# Altium integrated library TI Data Converters Analog to Digital Converter.IntLib: 2198 symbols (part 127 of 164)
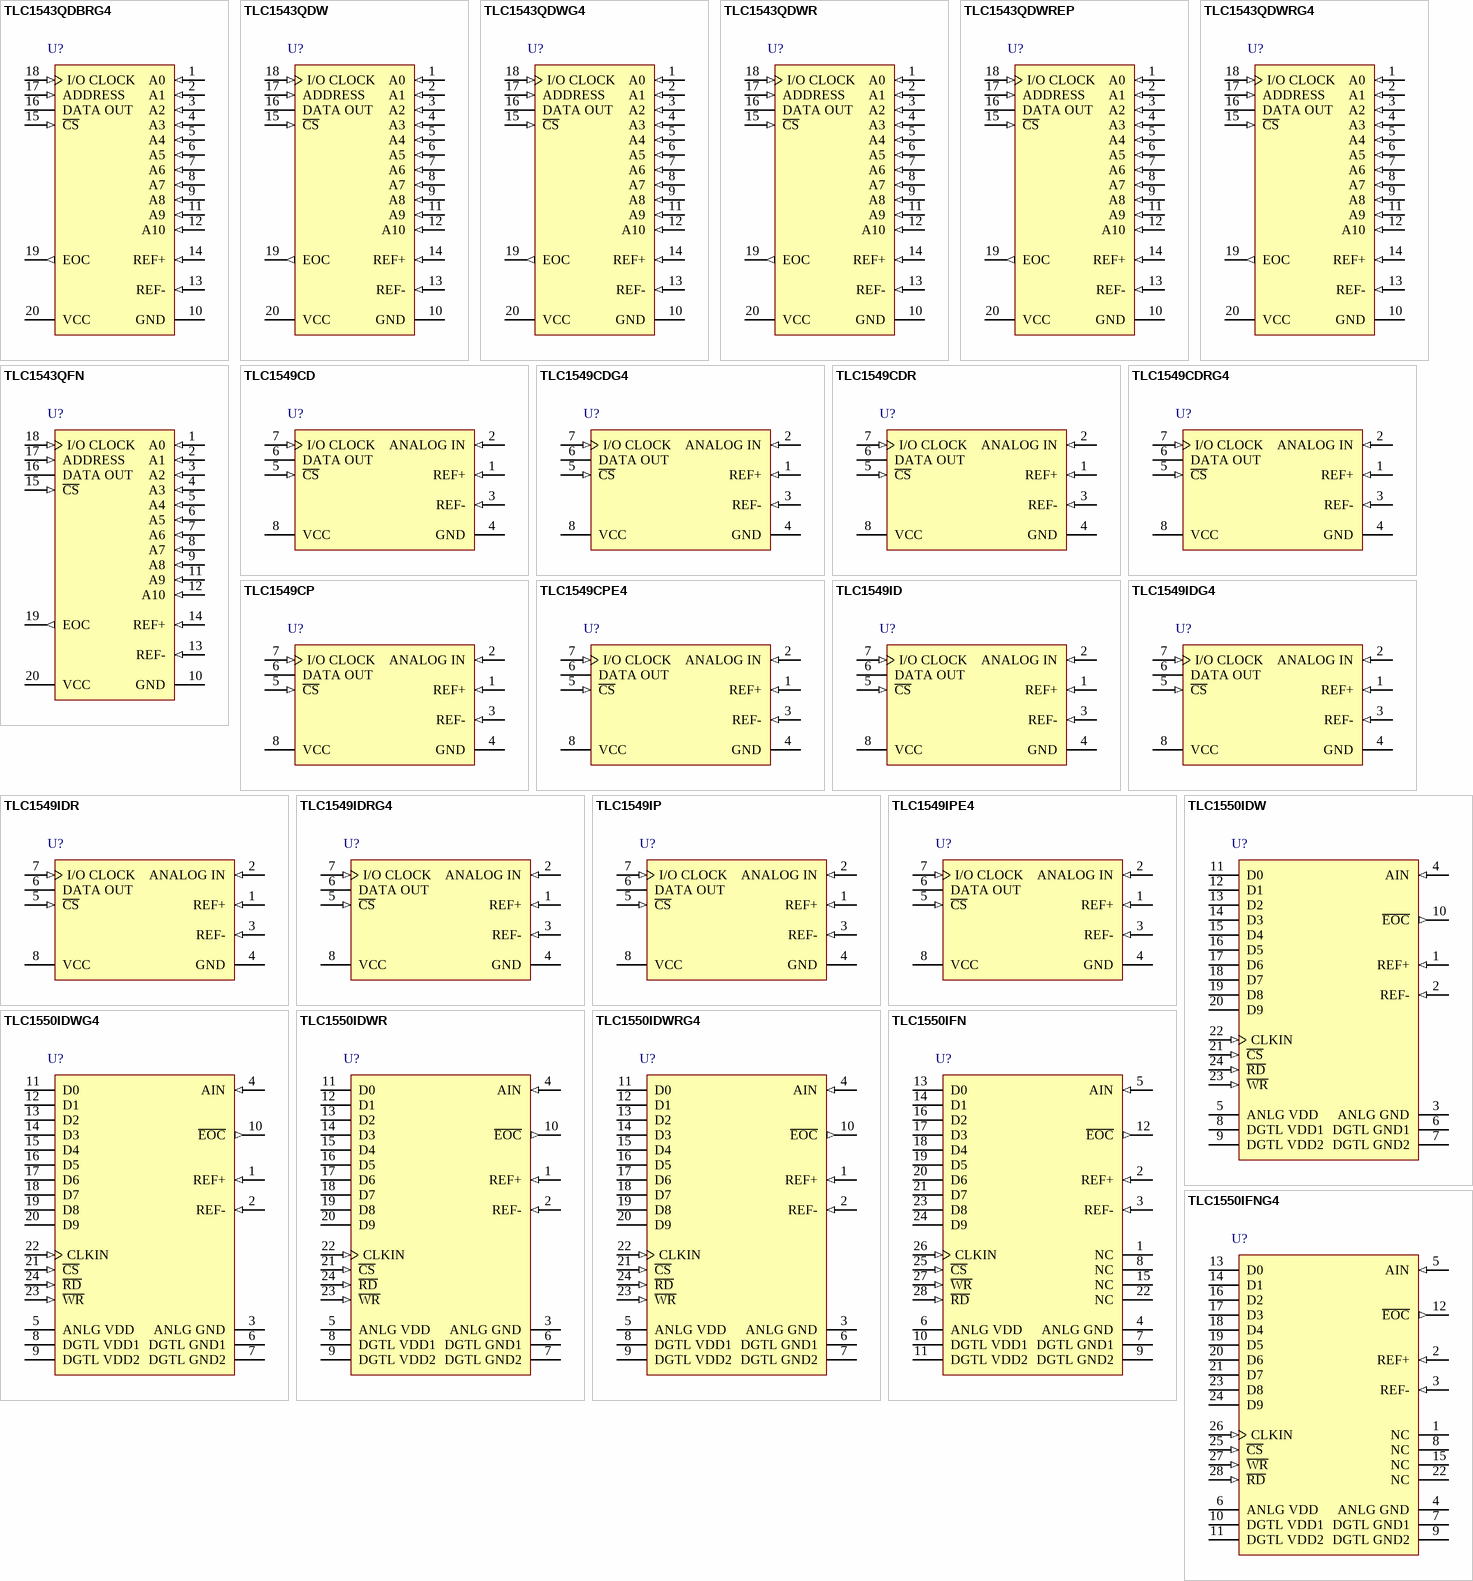
[diagram p252: symbols TLC1543QDBRG4 to TLC1550IFNG4]

## TLC1549IDR
designator U?
10-Bit, 38 kSPS ADC Serial Out, On-Chip System Clock, Single Channel, -40 to 85 degC, 8-pin SOIC (D8), Green (RoHS & no Sb/Br); Manufacturer: Texas Instruments; PartNumber: TLC1549IDR; # Input Channels: 1; Analog Voltage AV/DD(Max)(V): 5.5; Analog Voltage AV/DD(Min)(V): 4.5; Architecture: SAR; Interface: Serial SPI; Resolution(Bits): 10; Sample Rate (max)(SPS): 38k; SubFamily: Low Power, 8-Bit, Dual 1.5 GSPS or Single 3.0 GSPS A/D Converter; DatasheetVersion: SLAS059C; PackageVersion: 4040047-3/M, 06/2011; PackageReference: D8; PackageDescription: 8-Pin Plastic Small Outline, Body 4.9 x 3.9 mm, Pitch 1.27 mm; Supplier 1: Digi-Key; Supplier Part Number 1: TLC1543CNE4-ND; Digital Supply(Max)(V): 5.5; Digital Supply(Min)(V): 4.5; Eco-Plan: Green (RoHS & no Sb/Br); INL(Max)(+/-LSB): 1; Mounting Technology: Surface Mount; Code_JEDEC: MS-012; ComponentLink1Description: Manufacturer URL; ComponentLink1URL: http://www.ti.com/; ComponentLink2Description: Datasheet; ComponentLink2URL: http://www.ti.com/general/docs/lit/getliterature.tsp?genericPartNumber=TLC1549&fileType=pdf; ComponentLink3Description: Package Specification; ComponentLink3URL: http://www.ti.com/litv/pdf/msoi002j
footprint TI-D8_N (SOIC, 8-Leads, Body 4.9x3.9mm, Pitch 1.27mm, IPC Medium Density)
footprint TI-D8_L (SOIC, 8-Leads, Body 4.9x3.9mm, Pitch 1.27mm, IPC High Density)
footprint TI-D8_M (SOIC, 8-Leads, Body 4.9x3.9mm, Pitch 1.27mm, IPC Low Density)
pins: 1 REF+ (in), 2 ANALOG IN (in), 3 REF- (in), 4 GND (power), 5 ~{CS} (in), 6 DATA OUT (hiz), 7 I/O CLOCK (in), 8 VCC (power)

## TLC1549IDRG4
designator U?
10-Bit, 38 kSPS ADC Serial Out, On-Chip System Clock, Single Channel, -40 to 85 degC, 8-pin SOIC (D8), Green (RoHS & no Sb/Br); Manufacturer: Texas Instruments; PartNumber: TLC1549IDRG4; # Input Channels: 1; Analog Voltage AV/DD(Max)(V): 5.5; Analog Voltage AV/DD(Min)(V): 4.5; Architecture: SAR; Interface: Serial SPI; Resolution(Bits): 10; Sample Rate (max)(SPS): 38k; SubFamily: Low Power, 8-Bit, Dual 1.5 GSPS or Single 3.0 GSPS A/D Converter; DatasheetVersion: SLAS059C; PackageVersion: 4040047-3/M, 06/2011; PackageReference: D8; PackageDescription: 8-Pin Plastic Small Outline, Body 4.9 x 3.9 mm, Pitch 1.27 mm; Supplier 1: Digi-Key; Supplier Part Number 1: 296-34332-5-ND; Digital Supply(Max)(V): 5.5; Digital Supply(Min)(V): 4.5; Eco-Plan: Green (RoHS & no Sb/Br); INL(Max)(+/-LSB): 1; Mounting Technology: Surface Mount; Code_JEDEC: MS-012; ComponentLink1Description: Manufacturer URL; ComponentLink1URL: http://www.ti.com/; ComponentLink2Description: Datasheet; ComponentLink2URL: http://www.ti.com/general/docs/lit/getliterature.tsp?genericPartNumber=TLC1549&fileType=pdf; ComponentLink3Description: Package Specification; ComponentLink3URL: http://www.ti.com/litv/pdf/msoi002j
footprint TI-D8_N (SOIC, 8-Leads, Body 4.9x3.9mm, Pitch 1.27mm, IPC Medium Density)
footprint TI-D8_L (SOIC, 8-Leads, Body 4.9x3.9mm, Pitch 1.27mm, IPC High Density)
footprint TI-D8_M (SOIC, 8-Leads, Body 4.9x3.9mm, Pitch 1.27mm, IPC Low Density)
pins: 1 REF+ (in), 2 ANALOG IN (in), 3 REF- (in), 4 GND (power), 5 ~{CS} (in), 6 DATA OUT (hiz), 7 I/O CLOCK (in), 8 VCC (power)

## TLC1549IP
designator U?
10-Bit, 38 kSPS ADC Serial Out, On-Chip System Clock, Single Channel, -40 to 85 degC, 8-pin DIP (P8), Green (RoHS & no Sb/Br); Manufacturer: Texas Instruments; PartNumber: TLC1549IP; # Input Channels: 1; Analog Voltage AV/DD(Max)(V): 5.5; Analog Voltage AV/DD(Min)(V): 4.5; Architecture: SAR; Interface: Serial SPI; Resolution(Bits): 10; Sample Rate (max)(SPS): 38k; SubFamily: Low Power, 8-Bit, Dual 1.5 GSPS or Single 3.0 GSPS A/D Converter; DatasheetVersion: SLAS059C; PackageVersion: 4040082/E, 04/2010; PackageReference: P8; PackageDescription: 8-Pin Plastic In-Line, Body 9.59 x 6.35 mm, Pitch 2.54 mm; Supplier 1: Digi-Key; Supplier Part Number 1: TLC1543IDBG4-ND; Digital Supply(Max)(V): 5.5; Digital Supply(Min)(V): 4.5; Eco-Plan: Green (RoHS & no Sb/Br); INL(Max)(+/-LSB): 1; Mounting Technology: Through Hole; Code_JEDEC: MS-001; ComponentLink1Description: Manufacturer URL; ComponentLink1URL: http://www.ti.com/; ComponentLink2Description: Datasheet; ComponentLink2URL: http://www.ti.com/general/docs/lit/getliterature.tsp?genericPartNumber=TLC1549&fileType=pdf; ComponentLink3Description: Package Specification; ComponentLink3URL: http://www.ti.com/litv/pdf/mpdi001b
footprint TI-P8 (DIP, 8-Leads, Body 9.59x6.35mm, Pitch 2.54mm)
pins: 1 REF+ (in), 2 ANALOG IN (in), 3 REF- (in), 4 GND (power), 5 ~{CS} (in), 6 DATA OUT (hiz), 7 I/O CLOCK (in), 8 VCC (power)

## TLC1549IPE4
designator U?
10-Bit, 38 kSPS ADC Serial Out, On-Chip System Clock, Single Channel, -40 to 85 degC, 8-pin DIP (P8), Green (RoHS & no Sb/Br); Manufacturer: Texas Instruments; PartNumber: TLC1549IPE4; # Input Channels: 1; Analog Voltage AV/DD(Max)(V): 5.5; Analog Voltage AV/DD(Min)(V): 4.5; Architecture: SAR; Interface: Serial SPI; Resolution(Bits): 10; Sample Rate (max)(SPS): 38k; SubFamily: Low Power, 8-Bit, Dual 1.5 GSPS or Single 3.0 GSPS A/D Converter; DatasheetVersion: SLAS059C; PackageVersion: 4040082/E, 04/2010; PackageReference: P8; PackageDescription: 8-Pin Plastic In-Line, Body 9.59 x 6.35 mm, Pitch 2.54 mm; Supplier 1: Digi-Key; Supplier Part Number 1: TLC1543IDBR-ND; Digital Supply(Max)(V): 5.5; Digital Supply(Min)(V): 4.5; Eco-Plan: Green (RoHS & no Sb/Br); INL(Max)(+/-LSB): 1; Mounting Technology: Through Hole; Code_JEDEC: MS-001; ComponentLink1Description: Manufacturer URL; ComponentLink1URL: http://www.ti.com/; ComponentLink2Description: Datasheet; ComponentLink2URL: http://www.ti.com/general/docs/lit/getliterature.tsp?genericPartNumber=TLC1549&fileType=pdf; ComponentLink3Description: Package Specification; ComponentLink3URL: http://www.ti.com/litv/pdf/mpdi001b
footprint TI-P8 (DIP, 8-Leads, Body 9.59x6.35mm, Pitch 2.54mm)
pins: 1 REF+ (in), 2 ANALOG IN (in), 3 REF- (in), 4 GND (power), 5 ~{CS} (in), 6 DATA OUT (hiz), 7 I/O CLOCK (in), 8 VCC (power)

## TLC1550IDW
designator U?
10-Bit, 164 kSPS ADC Parallel Out, Direct I/F to DSP / uProcessor, 10 Channel, -40 to 85 degC, 24-pin SOIC (DW24), Green (RoHS & no Sb/Br); Manufacturer: Texas Instruments; PartNumber: TLC1550IDW; # Input Channels: 1; Analog Voltage AV/DD(Max)(V): 5.5; Analog Voltage AV/DD(Min)(V): 4.75; Architecture: SAR; INL(Max)(+/-LSB): 0.5; Interface: Parallel CMOS; Resolution(Bits): 10; Sample Rate (max)(SPS): 164k; SubFamily: Precision ADC (<=10MSPS); DatasheetVersion: SLAS043G; PackageVersion: 4040000-5/G, 01/2011; PackageReference: DW24; PackageDescription: 24-Pin Plastic Small Outline, Body 15.4 x 7.5 mm, Pitch 1.27 mm; Supplier 1: Digi-Key; Supplier Part Number 1: TLC1543IDBRG4-ND; Digital Supply(Max)(V): 5.5; Digital Supply(Min)(V): 4.75; Eco-Plan: Green (RoHS & no Sb/Br); Mounting Technology: Surface Mount; Code_JEDEC: MS-013; ComponentLink1Description: Manufacturer URL; ComponentLink1URL: http://www.ti.com/; ComponentLink2Description: Datasheet; ComponentLink2URL: http://www.ti.com/general/docs/lit/getliterature.tsp?genericPartNumber=TLC1550&fileType=pdf; ComponentLink3Description: Package Specification; ComponentLink3URL: http://www.ti.com/litv/pdf/mpds174a
footprint TI-DW24_N (SOIC, 24-Leads, Body 15.4x7.5mm, Pitch 1.27mm, IPC Medium Density)
footprint TI-DW24_L (SOIC, 24-Leads, Body 15.4x7.5mm, Pitch 1.27mm, IPC High Density)
footprint TI-DW24_M (SOIC, 24-Leads, Body 15.4x7.5mm, Pitch 1.27mm, IPC Low Density)
pins: 1 REF+ (in) "Positive voltage-reference input. Any analog input that is greater than or equal to the voltage on REF+ converts to 1111111111. Analog input voltages between REF+ and REF- convert to the appropriate result in a ratiometric (See Datasheet)", 2 REF- (in) "Negative voltage reference input. Any analog input that is less than or equal to the voltage on REF- converts to 0000000000.", 3 ANLG GND (power) "Analog ground. The reference point for the voltage applied on terminals ANLG VDD, AIN, REF+, and REF-.", 4 AIN (in) "Analog voltage input. The voltage applied to AIN is converted to the equivalent digital output.", 5 ANLG VDD (power) "Analog positive power supply voltage. The voltage applied to this terminal is designated VDD3.", 6 DGTL GND1 (power) "Digital ground 1. The ground for power supply DGTL VDD1 and is the substrate connection", 7 DGTL GND2 (power) "Digital ground 2. The ground for power supply DGTL VDD2", 8 DGTL VDD1 (power) "Digital positive power-supply voltage 1. DGTL VDD1 supplies the logic. The voltage applied to DGTL VDD1 is designated VDD1.", 9 DGTL VDD2 (power) "Digital positive power-supply voltage 2. DGTL VDD2 supplies only the higher-current output buffers. The voltage applied to DGTL VDD2 is designated VDD2.", 10 ~{EOC} (out) "End-of-conversion. E\O\C\ goes low indicating that conversion is complete and the results have been transferred to the output latch. E\O\C\ can be connected to the uP- or DSP-interrupt terminal or can be continuously polled", 11 D0 (hiz) "Data bus output. D0 is bit 1 (LSB).", 12 D1 (hiz) "Data bus output. D1 is bit 2.", 13 D2 (hiz) "Data bus output. D2 is bit 3.", 14 D3 (hiz) "Data bus output. D3 is bit 4.", 15 D4 (hiz) "Data bus output. D4 is bit 5.", 16 D5 (hiz) "Data bus output. D5 is bit 6.", 17 D6 (hiz) "Data bus output. D6 is bit 7.", 18 D7 (hiz) "Data bus output. D7 is bit 8.", 19 D8 (hiz) "Data bus output. D8 is bit 9.", 20 D9 (hiz) "Data bus output. D9 is bit 10 (MSB).", 21 ~{CS} (in) "Chip-select. C\S\ must be low for R\D\ or W\R\ to be recognized by the A/D converter.", 22 CLKIN (in) "Clock input. CLKIN is used for external clocking instead of using the internal system clock. It usually takes a few microseconds before the internal clock is disabled. To use the internal clock, CLKIN should be tied high or (See Datasheet)", 23 ~{WR} (in) "Write input. When C\S\ is low, conversion is started on the rising edge of W\R\. On this rising edge, the ADC holds the analog input until conversion is completed. Before and after the conversion period, which is given by (See Datasheet)", 24 ~{RD} (in) "Read input. When C\S\ is low and R\D\ is taken low, the data is placed on the data bus from the output latch. The output latch stores the conversion results at the most recent negative edge of E\O\C\. The falling edge of (See Datasheet)"

## TLC1550IDWG4
designator U?
10-Bit, 164 kSPS ADC Parallel Out, Direct I/F to DSP / uProcessor, 10 Channel, -40 to 85 degC, 24-pin SOIC (DW24), Green (RoHS & no Sb/Br); Manufacturer: Texas Instruments; PartNumber: TLC1550IDWG4; # Input Channels: 1; Analog Voltage AV/DD(Max)(V): 5.5; Analog Voltage AV/DD(Min)(V): 4.75; Architecture: SAR; INL(Max)(+/-LSB): 0.5; Interface: Parallel CMOS; Resolution(Bits): 10; Sample Rate (max)(SPS): 164k; SubFamily: Precision ADC (<=10MSPS); DatasheetVersion: SLAS043G; PackageVersion: 4040000-5/G, 01/2011; PackageReference: DW24; PackageDescription: 24-Pin Plastic Small Outline, Body 15.4 x 7.5 mm, Pitch 1.27 mm; Supplier 1: Digi-Key; Supplier Part Number 1: 296-2886-5-ND; Digital Supply(Max)(V): 5.5; Digital Supply(Min)(V): 4.75; Eco-Plan: Green (RoHS & no Sb/Br); Mounting Technology: Surface Mount; Code_JEDEC: MS-013; ComponentLink1Description: Manufacturer URL; ComponentLink1URL: http://www.ti.com/; ComponentLink2Description: Datasheet; ComponentLink2URL: http://www.ti.com/general/docs/lit/getliterature.tsp?genericPartNumber=TLC1550&fileType=pdf; ComponentLink3Description: Package Specification; ComponentLink3URL: http://www.ti.com/litv/pdf/mpds174a
footprint TI-DW24_N (SOIC, 24-Leads, Body 15.4x7.5mm, Pitch 1.27mm, IPC Medium Density)
footprint TI-DW24_L (SOIC, 24-Leads, Body 15.4x7.5mm, Pitch 1.27mm, IPC High Density)
footprint TI-DW24_M (SOIC, 24-Leads, Body 15.4x7.5mm, Pitch 1.27mm, IPC Low Density)
pins: 1 REF+ (in) "Positive voltage-reference input. Any analog input that is greater than or equal to the voltage on REF+ converts to 1111111111. Analog input voltages between REF+ and REF- convert to the appropriate result in a ratiometric (See Datasheet)", 2 REF- (in) "Negative voltage reference input. Any analog input that is less than or equal to the voltage on REF- converts to 0000000000.", 3 ANLG GND (power) "Analog ground. The reference point for the voltage applied on terminals ANLG VDD, AIN, REF+, and REF-.", 4 AIN (in) "Analog voltage input. The voltage applied to AIN is converted to the equivalent digital output.", 5 ANLG VDD (power) "Analog positive power supply voltage. The voltage applied to this terminal is designated VDD3.", 6 DGTL GND1 (power) "Digital ground 1. The ground for power supply DGTL VDD1 and is the substrate connection", 7 DGTL GND2 (power) "Digital ground 2. The ground for power supply DGTL VDD2", 8 DGTL VDD1 (power) "Digital positive power-supply voltage 1. DGTL VDD1 supplies the logic. The voltage applied to DGTL VDD1 is designated VDD1.", 9 DGTL VDD2 (power) "Digital positive power-supply voltage 2. DGTL VDD2 supplies only the higher-current output buffers. The voltage applied to DGTL VDD2 is designated VDD2.", 10 ~{EOC} (out) "End-of-conversion. E\O\C\ goes low indicating that conversion is complete and the results have been transferred to the output latch. E\O\C\ can be connected to the uP- or DSP-interrupt terminal or can be continuously polled", 11 D0 (hiz) "Data bus output. D0 is bit 1 (LSB).", 12 D1 (hiz) "Data bus output. D1 is bit 2.", 13 D2 (hiz) "Data bus output. D2 is bit 3.", 14 D3 (hiz) "Data bus output. D3 is bit 4.", 15 D4 (hiz) "Data bus output. D4 is bit 5.", 16 D5 (hiz) "Data bus output. D5 is bit 6.", 17 D6 (hiz) "Data bus output. D6 is bit 7.", 18 D7 (hiz) "Data bus output. D7 is bit 8.", 19 D8 (hiz) "Data bus output. D8 is bit 9.", 20 D9 (hiz) "Data bus output. D9 is bit 10 (MSB).", 21 ~{CS} (in) "Chip-select. C\S\ must be low for R\D\ or W\R\ to be recognized by the A/D converter.", 22 CLKIN (in) "Clock input. CLKIN is used for external clocking instead of using the internal system clock. It usually takes a few microseconds before the internal clock is disabled. To use the internal clock, CLKIN should be tied high or (See Datasheet)", 23 ~{WR} (in) "Write input. When C\S\ is low, conversion is started on the rising edge of W\R\. On this rising edge, the ADC holds the analog input until conversion is completed. Before and after the conversion period, which is given by (See Datasheet)", 24 ~{RD} (in) "Read input. When C\S\ is low and R\D\ is taken low, the data is placed on the data bus from the output latch. The output latch stores the conversion results at the most recent negative edge of E\O\C\. The falling edge of (See Datasheet)"

## TLC1550IDWR
designator U?
10-Bit, 164 kSPS ADC Parallel Out, Direct I/F to DSP / uProcessor, 10 Channel, -40 to 85 degC, 24-pin SOIC (DW24), Green (RoHS & no Sb/Br); Manufacturer: Texas Instruments; PartNumber: TLC1550IDWR; # Input Channels: 1; Analog Voltage AV/DD(Max)(V): 5.5; Analog Voltage AV/DD(Min)(V): 4.75; Architecture: SAR; INL(Max)(+/-LSB): 0.5; Interface: Parallel CMOS; Resolution(Bits): 10; Sample Rate (max)(SPS): 164k; SubFamily: Precision ADC (<=10MSPS); DatasheetVersion: SLAS043G; PackageVersion: 4040000-5/G, 01/2011; PackageReference: DW24; PackageDescription: 24-Pin Plastic Small Outline, Body 15.4 x 7.5 mm, Pitch 1.27 mm; Supplier 1: Digi-Key; Supplier Part Number 1: TLC1543IDWG4-ND; Digital Supply(Max)(V): 5.5; Digital Supply(Min)(V): 4.75; Eco-Plan: Green (RoHS & no Sb/Br); Mounting Technology: Surface Mount; Code_JEDEC: MS-013; ComponentLink1Description: Manufacturer URL; ComponentLink1URL: http://www.ti.com/; ComponentLink2Description: Datasheet; ComponentLink2URL: http://www.ti.com/general/docs/lit/getliterature.tsp?genericPartNumber=TLC1550&fileType=pdf; ComponentLink3Description: Package Specification; ComponentLink3URL: http://www.ti.com/litv/pdf/mpds174a
footprint TI-DW24_N (SOIC, 24-Leads, Body 15.4x7.5mm, Pitch 1.27mm, IPC Medium Density)
footprint TI-DW24_L (SOIC, 24-Leads, Body 15.4x7.5mm, Pitch 1.27mm, IPC High Density)
footprint TI-DW24_M (SOIC, 24-Leads, Body 15.4x7.5mm, Pitch 1.27mm, IPC Low Density)
pins: 1 REF+ (in) "Positive voltage-reference input. Any analog input that is greater than or equal to the voltage on REF+ converts to 1111111111. Analog input voltages between REF+ and REF- convert to the appropriate result in a ratiometric (See Datasheet)", 2 REF- (in) "Negative voltage reference input. Any analog input that is less than or equal to the voltage on REF- converts to 0000000000.", 3 ANLG GND (power) "Analog ground. The reference point for the voltage applied on terminals ANLG VDD, AIN, REF+, and REF-.", 4 AIN (in) "Analog voltage input. The voltage applied to AIN is converted to the equivalent digital output.", 5 ANLG VDD (power) "Analog positive power supply voltage. The voltage applied to this terminal is designated VDD3.", 6 DGTL GND1 (power) "Digital ground 1. The ground for power supply DGTL VDD1 and is the substrate connection", 7 DGTL GND2 (power) "Digital ground 2. The ground for power supply DGTL VDD2", 8 DGTL VDD1 (power) "Digital positive power-supply voltage 1. DGTL VDD1 supplies the logic. The voltage applied to DGTL VDD1 is designated VDD1.", 9 DGTL VDD2 (power) "Digital positive power-supply voltage 2. DGTL VDD2 supplies only the higher-current output buffers. The voltage applied to DGTL VDD2 is designated VDD2.", 10 ~{EOC} (out) "End-of-conversion. E\O\C\ goes low indicating that conversion is complete and the results have been transferred to the output latch. E\O\C\ can be connected to the uP- or DSP-interrupt terminal or can be continuously polled", 11 D0 (hiz) "Data bus output. D0 is bit 1 (LSB).", 12 D1 (hiz) "Data bus output. D1 is bit 2.", 13 D2 (hiz) "Data bus output. D2 is bit 3.", 14 D3 (hiz) "Data bus output. D3 is bit 4.", 15 D4 (hiz) "Data bus output. D4 is bit 5.", 16 D5 (hiz) "Data bus output. D5 is bit 6.", 17 D6 (hiz) "Data bus output. D6 is bit 7.", 18 D7 (hiz) "Data bus output. D7 is bit 8.", 19 D8 (hiz) "Data bus output. D8 is bit 9.", 20 D9 (hiz) "Data bus output. D9 is bit 10 (MSB).", 21 ~{CS} (in) "Chip-select. C\S\ must be low for R\D\ or W\R\ to be recognized by the A/D converter.", 22 CLKIN (in) "Clock input. CLKIN is used for external clocking instead of using the internal system clock. It usually takes a few microseconds before the internal clock is disabled. To use the internal clock, CLKIN should be tied high or (See Datasheet)", 23 ~{WR} (in) "Write input. When C\S\ is low, conversion is started on the rising edge of W\R\. On this rising edge, the ADC holds the analog input until conversion is completed. Before and after the conversion period, which is given by (See Datasheet)", 24 ~{RD} (in) "Read input. When C\S\ is low and R\D\ is taken low, the data is placed on the data bus from the output latch. The output latch stores the conversion results at the most recent negative edge of E\O\C\. The falling edge of (See Datasheet)"

## TLC1550IDWRG4
designator U?
10-Bit, 164 kSPS ADC Parallel Out, Direct I/F to DSP / uProcessor, 10 Channel, -40 to 85 degC, 24-pin SOIC (DW24), Green (RoHS & no Sb/Br); Manufacturer: Texas Instruments; PartNumber: TLC1550IDWRG4; # Input Channels: 1; Analog Voltage AV/DD(Max)(V): 5.5; Analog Voltage AV/DD(Min)(V): 4.75; Architecture: SAR; INL(Max)(+/-LSB): 0.5; Interface: Parallel CMOS; Resolution(Bits): 10; Sample Rate (max)(SPS): 164k; SubFamily: Precision ADC (<=10MSPS); DatasheetVersion: SLAS043G; PackageVersion: 4040000-5/G, 01/2011; PackageReference: DW24; PackageDescription: 24-Pin Plastic Small Outline, Body 15.4 x 7.5 mm, Pitch 1.27 mm; Supplier 1: Digi-Key; Supplier Part Number 1: TLC1543IDWR-ND; Digital Supply(Max)(V): 5.5; Digital Supply(Min)(V): 4.75; Eco-Plan: Green (RoHS & no Sb/Br); Mounting Technology: Surface Mount; Code_JEDEC: MS-013; ComponentLink1Description: Manufacturer URL; ComponentLink1URL: http://www.ti.com/; ComponentLink2Description: Datasheet; ComponentLink2URL: http://www.ti.com/general/docs/lit/getliterature.tsp?genericPartNumber=TLC1550&fileType=pdf; ComponentLink3Description: Package Specification; ComponentLink3URL: http://www.ti.com/litv/pdf/mpds174a
footprint TI-DW24_N (SOIC, 24-Leads, Body 15.4x7.5mm, Pitch 1.27mm, IPC Medium Density)
footprint TI-DW24_L (SOIC, 24-Leads, Body 15.4x7.5mm, Pitch 1.27mm, IPC High Density)
footprint TI-DW24_M (SOIC, 24-Leads, Body 15.4x7.5mm, Pitch 1.27mm, IPC Low Density)
pins: 1 REF+ (in) "Positive voltage-reference input. Any analog input that is greater than or equal to the voltage on REF+ converts to 1111111111. Analog input voltages between REF+ and REF- convert to the appropriate result in a ratiometric (See Datasheet)", 2 REF- (in) "Negative voltage reference input. Any analog input that is less than or equal to the voltage on REF- converts to 0000000000.", 3 ANLG GND (power) "Analog ground. The reference point for the voltage applied on terminals ANLG VDD, AIN, REF+, and REF-.", 4 AIN (in) "Analog voltage input. The voltage applied to AIN is converted to the equivalent digital output.", 5 ANLG VDD (power) "Analog positive power supply voltage. The voltage applied to this terminal is designated VDD3.", 6 DGTL GND1 (power) "Digital ground 1. The ground for power supply DGTL VDD1 and is the substrate connection", 7 DGTL GND2 (power) "Digital ground 2. The ground for power supply DGTL VDD2", 8 DGTL VDD1 (power) "Digital positive power-supply voltage 1. DGTL VDD1 supplies the logic. The voltage applied to DGTL VDD1 is designated VDD1.", 9 DGTL VDD2 (power) "Digital positive power-supply voltage 2. DGTL VDD2 supplies only the higher-current output buffers. The voltage applied to DGTL VDD2 is designated VDD2.", 10 ~{EOC} (out) "End-of-conversion. E\O\C\ goes low indicating that conversion is complete and the results have been transferred to the output latch. E\O\C\ can be connected to the uP- or DSP-interrupt terminal or can be continuously polled", 11 D0 (hiz) "Data bus output. D0 is bit 1 (LSB).", 12 D1 (hiz) "Data bus output. D1 is bit 2.", 13 D2 (hiz) "Data bus output. D2 is bit 3.", 14 D3 (hiz) "Data bus output. D3 is bit 4.", 15 D4 (hiz) "Data bus output. D4 is bit 5.", 16 D5 (hiz) "Data bus output. D5 is bit 6.", 17 D6 (hiz) "Data bus output. D6 is bit 7.", 18 D7 (hiz) "Data bus output. D7 is bit 8.", 19 D8 (hiz) "Data bus output. D8 is bit 9.", 20 D9 (hiz) "Data bus output. D9 is bit 10 (MSB).", 21 ~{CS} (in) "Chip-select. C\S\ must be low for R\D\ or W\R\ to be recognized by the A/D converter.", 22 CLKIN (in) "Clock input. CLKIN is used for external clocking instead of using the internal system clock. It usually takes a few microseconds before the internal clock is disabled. To use the internal clock, CLKIN should be tied high or (See Datasheet)", 23 ~{WR} (in) "Write input. When C\S\ is low, conversion is started on the rising edge of W\R\. On this rising edge, the ADC holds the analog input until conversion is completed. Before and after the conversion period, which is given by (See Datasheet)", 24 ~{RD} (in) "Read input. When C\S\ is low and R\D\ is taken low, the data is placed on the data bus from the output latch. The output latch stores the conversion results at the most recent negative edge of E\O\C\. The falling edge of (See Datasheet)"

## TLC1550IFN
designator U?
10-Bit, 164 kSPS ADC Parallel Out, Direct I/F to DSP / uProcessor, 10 Channel, -40 to 85 degC, 28-pin PLCC (FN), Green (RoHS & no Sb/Br); Manufacturer: Texas Instruments; PartNumber: TLC1550IFN; # Input Channels: 1; Analog Voltage AV/DD(Max)(V): 5.5; Analog Voltage AV/DD(Min)(V): 4.75; Architecture: SAR; INL(Max)(+/-LSB): 0.5; Interface: Parallel CMOS; Resolution(Bits): 10; Sample Rate (max)(SPS): 164k; SubFamily: Precision ADC (<=10MSPS); DatasheetVersion: SLAS043G; PackageReference: FN28; PackageDescription: 28-Pin Plastic Chip Carrier, Body 11.51 x 11.51 mm, Pitch 1.27 mm; Supplier 1: Digi-Key; Supplier Part Number 1: TLC1543IDWRG4-ND; Digital Supply(Max)(V): 5.5; Digital Supply(Min)(V): 4.75; Eco-Plan: Green (RoHS & no Sb/Br); Mounting Technology: Surface Mount; Code_JEDEC: MS-013; ComponentLink1Description: Manufacturer URL; ComponentLink1URL: http://www.ti.com/; ComponentLink2Description: Datasheet; ComponentLink2URL: http://www.ti.com/general/docs/lit/getliterature.tsp?genericPartNumber=TLC1550&fileType=pdf; ComponentLink3Description: Package Specification; ComponentLink3URL: http://www.ti.com/lit/ml/mplc004a/mplc004a.pdf
footprint TI-FN28_N (PLCC, 28-Leads, Body 11.58x11.58mm, Pitch 1.27mm, IPC Medium Density)
footprint TI-FN28_L (PLCC, 28-Leads, Body 11.58x11.58mm, Pitch 1.27mm, IPC High Density)
footprint TI-FN28_M (PLCC, 28-Leads, Body 11.58x11.58mm, Pitch 1.27mm, IPC Low Density)
pins: 1 NC "No internal connection", 2 REF+ (in) "Positive voltage-reference input. Any analog input that is greater than or equal to the voltage on REF+ converts to 1111111111. Analog input voltages between REF+ and REF- convert to the appropriate result in a ratiometric (See Datasheet)", 3 REF- (in) "Negative voltage reference input. Any analog input that is less than or equal to the voltage on REF- converts to 0000000000.", 4 ANLG GND (power) "Analog ground. The reference point for the voltage applied on terminals ANLG VDD, AIN, REF+, and REF-.", 5 AIN (in) "Analog voltage input. The voltage applied to AIN is converted to the equivalent digital output.", 6 ANLG VDD (power) "Analog positive power supply voltage. The voltage applied to this terminal is designated VDD3.", 7 DGTL GND1 (power) "Digital ground 1. The ground for power supply DGTL VDD1 and is the substrate connection", 8 NC "No internal connection", 9 DGTL GND2 (power) "Digital ground 2. The ground for power supply DGTL VDD2", 10 DGTL VDD1 (power) "Digital positive power-supply voltage 1. DGTL VDD1 supplies the logic. The voltage applied to DGTL VDD1 is designated VDD1.", 11 DGTL VDD2 (power) "Digital positive power-supply voltage 2. DGTL VDD2 supplies only the higher-current output buffers. The voltage applied to DGTL VDD2 is designated VDD2.", 12 ~{EOC} (out) "End-of-conversion. E\O\C\ goes low indicating that conversion is complete and the results have been transferred to the output latch. E\O\C\ can be connected to the uP- or DSP-interrupt terminal or can be continuously polled", 13 D0 (hiz) "Data bus output. D0 is bit 1 (LSB).", 14 D1 (hiz) "Data bus output. D1 is bit 2.", 15 NC "No internal connection", 16 D2 (hiz) "Data bus output. D2 is bit 3.", 17 D3 (hiz) "Data bus output. D3 is bit 4.", 18 D4 (hiz) "Data bus output. D4 is bit 5.", 19 D5 (hiz) "Data bus output. D5 is bit 6.", 20 D6 (hiz) "Data bus output. D6 is bit 7.", 21 D7 (hiz) "Data bus output. D7 is bit 8.", 22 NC "No internal connection", 23 D8 (hiz) "Data bus output. D8 is bit 9.", 24 D9 (hiz) "Data bus output. D9 is bit 10 (MSB).", 25 ~{CS} (in) "Chip-select. C\S\ must be low for R\D\ or W\R\ to be recognized by the A/D converter.", 26 CLKIN (in) "Clock input. CLKIN is used for external clocking instead of using the internal system clock. It usually takes a few microseconds before the internal clock is disabled. To use the internal clock, CLKIN should be tied high or (See Datasheet)", 27 ~{WR} (in) "Write input. When C\S\ is low, conversion is started on the rising edge of W\R\. On this rising edge, the ADC holds the analog input until conversion is completed. Before and after the conversion period, which is given by (See Datasheet)", 28 ~{RD} (in) "Read input. When C\S\ is low and R\D\ is taken low, the data is placed on the data bus from the output latch. The output latch stores the conversion results at the most recent negative edge of E\O\C\. The falling edge of (See Datasheet)"

## TLC1550IFNG4
designator U?
10-Bit, 164 kSPS ADC Parallel Out, Direct I/F to DSP / uProcessor, 10 Channel, -40 to 85 degC, 28-pin PLCC (FN), Green (RoHS & no Sb/Br); Manufacturer: Texas Instruments; PartNumber: TLC1550IFNG4; # Input Channels: 1; Analog Voltage AV/DD(Max)(V): 5.5; Analog Voltage AV/DD(Min)(V): 4.75; Architecture: SAR; INL(Max)(+/-LSB): 0.5; Interface: Parallel CMOS; Resolution(Bits): 10; Sample Rate (max)(SPS): 164k; SubFamily: Precision ADC (<=10MSPS); DatasheetVersion: SLAS043G; PackageReference: FN28; PackageDescription: 28-Pin Plastic Chip Carrier, Body 11.51 x 11.51 mm, Pitch 1.27 mm; Supplier 1: Digi-Key; Supplier Part Number 1: 296-2887-5-ND; Digital Supply(Max)(V): 5.5; Digital Supply(Min)(V): 4.75; Eco-Plan: Green (RoHS & no Sb/Br); Mounting Technology: Surface Mount; Code_JEDEC: MS-013; ComponentLink1Description: Manufacturer URL; ComponentLink1URL: http://www.ti.com/; ComponentLink2Description: Datasheet; ComponentLink2URL: http://www.ti.com/general/docs/lit/getliterature.tsp?genericPartNumber=TLC1550&fileType=pdf; ComponentLink3Description: Package Specification; ComponentLink3URL: http://www.ti.com/lit/ml/mplc004a/mplc004a.pdf
footprint TI-FN28_N (PLCC, 28-Leads, Body 11.58x11.58mm, Pitch 1.27mm, IPC Medium Density)
footprint TI-FN28_L (PLCC, 28-Leads, Body 11.58x11.58mm, Pitch 1.27mm, IPC High Density)
footprint TI-FN28_M (PLCC, 28-Leads, Body 11.58x11.58mm, Pitch 1.27mm, IPC Low Density)
pins: 1 NC "No internal connection", 2 REF+ (in) "Positive voltage-reference input. Any analog input that is greater than or equal to the voltage on REF+ converts to 1111111111. Analog input voltages between REF+ and REF- convert to the appropriate result in a ratiometric (See Datasheet)", 3 REF- (in) "Negative voltage reference input. Any analog input that is less than or equal to the voltage on REF- converts to 0000000000.", 4 ANLG GND (power) "Analog ground. The reference point for the voltage applied on terminals ANLG VDD, AIN, REF+, and REF-.", 5 AIN (in) "Analog voltage input. The voltage applied to AIN is converted to the equivalent digital output.", 6 ANLG VDD (power) "Analog positive power supply voltage. The voltage applied to this terminal is designated VDD3.", 7 DGTL GND1 (power) "Digital ground 1. The ground for power supply DGTL VDD1 and is the substrate connection", 8 NC "No internal connection", 9 DGTL GND2 (power) "Digital ground 2. The ground for power supply DGTL VDD2", 10 DGTL VDD1 (power) "Digital positive power-supply voltage 1. DGTL VDD1 supplies the logic. The voltage applied to DGTL VDD1 is designated VDD1.", 11 DGTL VDD2 (power) "Digital positive power-supply voltage 2. DGTL VDD2 supplies only the higher-current output buffers. The voltage applied to DGTL VDD2 is designated VDD2.", 12 ~{EOC} (out) "End-of-conversion. E\O\C\ goes low indicating that conversion is complete and the results have been transferred to the output latch. E\O\C\ can be connected to the uP- or DSP-interrupt terminal or can be continuously polled", 13 D0 (hiz) "Data bus output. D0 is bit 1 (LSB).", 14 D1 (hiz) "Data bus output. D1 is bit 2.", 15 NC "No internal connection", 16 D2 (hiz) "Data bus output. D2 is bit 3.", 17 D3 (hiz) "Data bus output. D3 is bit 4.", 18 D4 (hiz) "Data bus output. D4 is bit 5.", 19 D5 (hiz) "Data bus output. D5 is bit 6.", 20 D6 (hiz) "Data bus output. D6 is bit 7.", 21 D7 (hiz) "Data bus output. D7 is bit 8.", 22 NC "No internal connection", 23 D8 (hiz) "Data bus output. D8 is bit 9.", 24 D9 (hiz) "Data bus output. D9 is bit 10 (MSB).", 25 ~{CS} (in) "Chip-select. C\S\ must be low for R\D\ or W\R\ to be recognized by the A/D converter.", 26 CLKIN (in) "Clock input. CLKIN is used for external clocking instead of using the internal system clock. It usually takes a few microseconds before the internal clock is disabled. To use the internal clock, CLKIN should be tied high or (See Datasheet)", 27 ~{WR} (in) "Write input. When C\S\ is low, conversion is started on the rising edge of W\R\. On this rising edge, the ADC holds the analog input until conversion is completed. Before and after the conversion period, which is given by (See Datasheet)", 28 ~{RD} (in) "Read input. When C\S\ is low and R\D\ is taken low, the data is placed on the data bus from the output latch. The output latch stores the conversion results at the most recent negative edge of E\O\C\. The falling edge of (See Datasheet)"

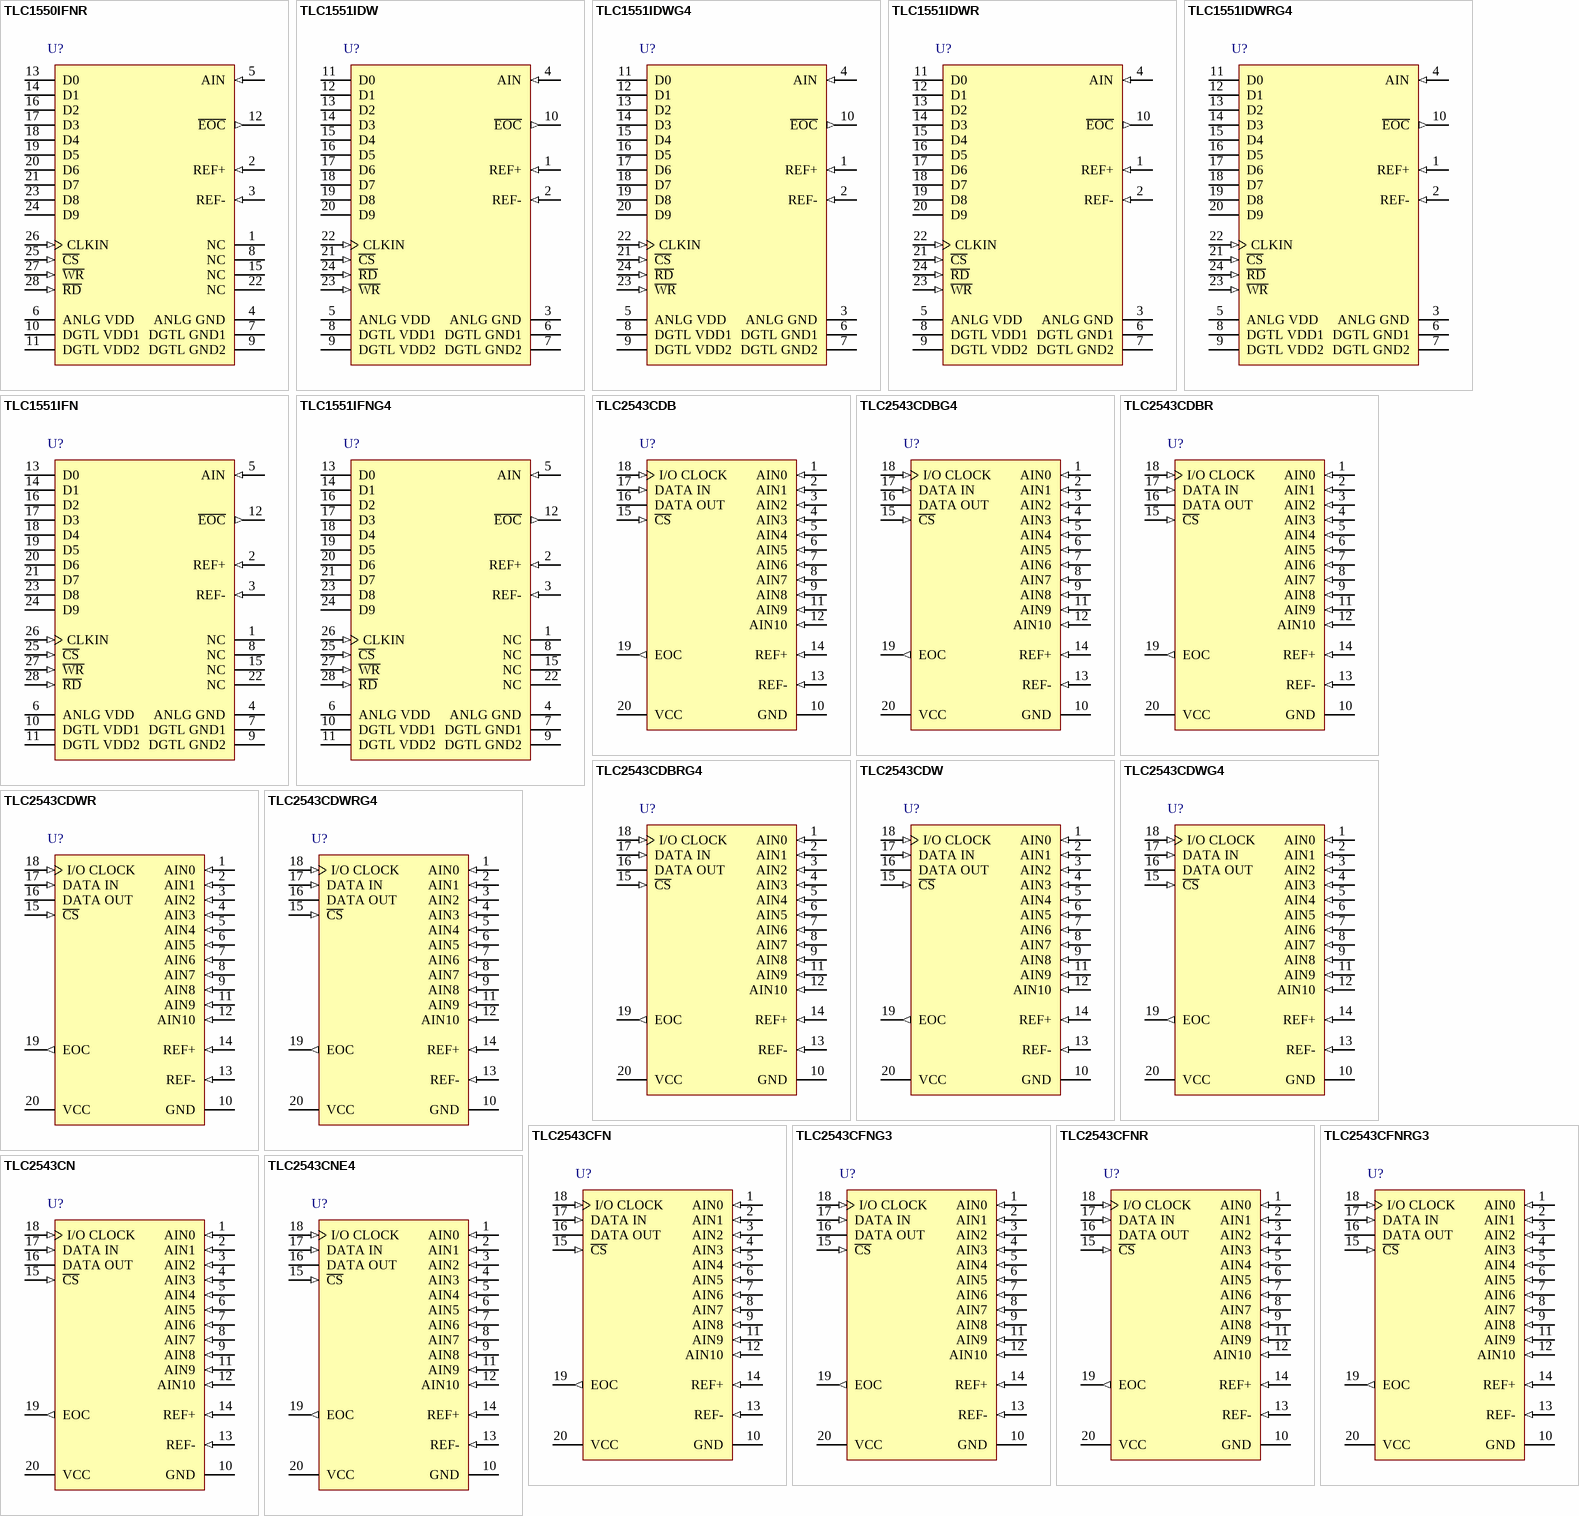
[diagram p109: symbols TLC1550IFNR to TLC2543CNE4]

## TLC1550IFNR
designator U?
10-Bit, 164 kSPS ADC Parallel Out, Direct I/F to DSP / uProcessor, 10 Channel, -40 to 85 degC, 28-pin PLCC (FN), Green (RoHS & no Sb/Br); Manufacturer: Texas Instruments; PartNumber: TLC1550IFNR; # Input Channels: 1; Analog Voltage AV/DD(Max)(V): 5.5; Analog Voltage AV/DD(Min)(V): 4.75; Architecture: SAR; INL(Max)(+/-LSB): 0.5; Interface: Parallel CMOS; Resolution(Bits): 10; Sample Rate (max)(SPS): 164k; SubFamily: Precision ADC (<=10MSPS); DatasheetVersion: SLAS043G; PackageReference: FN28; PackageDescription: 28-Pin Plastic Chip Carrier, Body 11.51 x 11.51 mm, Pitch 1.27 mm; Supplier 1: Digi-Key; Supplier Part Number 1: TLC1543IFNG3-ND; Digital Supply(Max)(V): 5.5; Digital Supply(Min)(V): 4.75; Eco-Plan: Green (RoHS & no Sb/Br); Mounting Technology: Surface Mount; Code_JEDEC: MS-013; ComponentLink1Description: Manufacturer URL; ComponentLink1URL: http://www.ti.com/; ComponentLink2Description: Datasheet; ComponentLink2URL: http://www.ti.com/general/docs/lit/getliterature.tsp?genericPartNumber=TLC1550&fileType=pdf; ComponentLink3Description: Package Specification; ComponentLink3URL: http://www.ti.com/lit/ml/mplc004a/mplc004a.pdf
footprint TI-FN28_N (PLCC, 28-Leads, Body 11.58x11.58mm, Pitch 1.27mm, IPC Medium Density)
footprint TI-FN28_L (PLCC, 28-Leads, Body 11.58x11.58mm, Pitch 1.27mm, IPC High Density)
footprint TI-FN28_M (PLCC, 28-Leads, Body 11.58x11.58mm, Pitch 1.27mm, IPC Low Density)
pins: 1 NC "No internal connection", 2 REF+ (in) "Positive voltage-reference input. Any analog input that is greater than or equal to the voltage on REF+ converts to 1111111111. Analog input voltages between REF+ and REF- convert to the appropriate result in a ratiometric (See Datasheet)", 3 REF- (in) "Negative voltage reference input. Any analog input that is less than or equal to the voltage on REF- converts to 0000000000.", 4 ANLG GND (power) "Analog ground. The reference point for the voltage applied on terminals ANLG VDD, AIN, REF+, and REF-.", 5 AIN (in) "Analog voltage input. The voltage applied to AIN is converted to the equivalent digital output.", 6 ANLG VDD (power) "Analog positive power supply voltage. The voltage applied to this terminal is designated VDD3.", 7 DGTL GND1 (power) "Digital ground 1. The ground for power supply DGTL VDD1 and is the substrate connection", 8 NC "No internal connection", 9 DGTL GND2 (power) "Digital ground 2. The ground for power supply DGTL VDD2", 10 DGTL VDD1 (power) "Digital positive power-supply voltage 1. DGTL VDD1 supplies the logic. The voltage applied to DGTL VDD1 is designated VDD1.", 11 DGTL VDD2 (power) "Digital positive power-supply voltage 2. DGTL VDD2 supplies only the higher-current output buffers. The voltage applied to DGTL VDD2 is designated VDD2.", 12 ~{EOC} (out) "End-of-conversion. E\O\C\ goes low indicating that conversion is complete and the results have been transferred to the output latch. E\O\C\ can be connected to the uP- or DSP-interrupt terminal or can be continuously polled", 13 D0 (hiz) "Data bus output. D0 is bit 1 (LSB).", 14 D1 (hiz) "Data bus output. D1 is bit 2.", 15 NC "No internal connection", 16 D2 (hiz) "Data bus output. D2 is bit 3.", 17 D3 (hiz) "Data bus output. D3 is bit 4.", 18 D4 (hiz) "Data bus output. D4 is bit 5.", 19 D5 (hiz) "Data bus output. D5 is bit 6.", 20 D6 (hiz) "Data bus output. D6 is bit 7.", 21 D7 (hiz) "Data bus output. D7 is bit 8.", 22 NC "No internal connection", 23 D8 (hiz) "Data bus output. D8 is bit 9.", 24 D9 (hiz) "Data bus output. D9 is bit 10 (MSB).", 25 ~{CS} (in) "Chip-select. C\S\ must be low for R\D\ or W\R\ to be recognized by the A/D converter.", 26 CLKIN (in) "Clock input. CLKIN is used for external clocking instead of using the internal system clock. It usually takes a few microseconds before the internal clock is disabled. To use the internal clock, CLKIN should be tied high or (See Datasheet)", 27 ~{WR} (in) "Write input. When C\S\ is low, conversion is started on the rising edge of W\R\. On this rising edge, the ADC holds the analog input until conversion is completed. Before and after the conversion period, which is given by (See Datasheet)", 28 ~{RD} (in) "Read input. When C\S\ is low and R\D\ is taken low, the data is placed on the data bus from the output latch. The output latch stores the conversion results at the most recent negative edge of E\O\C\. The falling edge of (See Datasheet)"

## TLC1551IDW
designator U?
10-Bit, 164 kSPS ADC Parallel Out, Direct I/F to DSP / uProcessor, 10 Channel, -40 to 85 degC, 24-pin SOIC (DW24), Green (RoHS & no Sb/Br); Manufacturer: Texas Instruments; PartNumber: TLC1551IDW; # Input Channels: 1; Analog Voltage AV/DD(Max)(V): 5.5; Analog Voltage AV/DD(Min)(V): 4.75; Architecture: SAR; Interface: Parallel CMOS; Resolution(Bits): 10; Sample Rate (max)(SPS): 164k; SubFamily: Precision ADC (<=10MSPS); DatasheetVersion: SLAS043G; PackageVersion: 4040000-5/G, 01/2011; PackageReference: DW24; PackageDescription: 24-Pin Plastic Small Outline, Body 15.4 x 7.5 mm, Pitch 1.27 mm; Supplier 1: Digi-Key; Supplier Part Number 1: 296-2888-5-ND; Digital Supply(Max)(V): 5.5; Digital Supply(Min)(V): 4.75; Eco-Plan: Green (RoHS & no Sb/Br); INL(Max)(+/-LSB): 1; Mounting Technology: Surface Mount; Code_JEDEC: MS-013; ComponentLink1Description: Manufacturer URL; ComponentLink1URL: http://www.ti.com/; ComponentLink2Description: Datasheet; ComponentLink2URL: http://www.ti.com/general/docs/lit/getliterature.tsp?genericPartNumber=TLC1551&fileType=pdf; ComponentLink3Description: Package Specification; ComponentLink3URL: http://www.ti.com/litv/pdf/mpds174a
footprint TI-DW24_N (SOIC, 24-Leads, Body 15.4x7.5mm, Pitch 1.27mm, IPC Medium Density)
footprint TI-DW24_L (SOIC, 24-Leads, Body 15.4x7.5mm, Pitch 1.27mm, IPC High Density)
footprint TI-DW24_M (SOIC, 24-Leads, Body 15.4x7.5mm, Pitch 1.27mm, IPC Low Density)
pins: 1 REF+ (in) "Positive voltage-reference input. Any analog input that is greater than or equal to the voltage on REF+ converts to 1111111111. Analog input voltages between REF+ and REF- convert to the appropriate result in a ratiometric (See Datasheet)", 2 REF- (in) "Negative voltage reference input. Any analog input that is less than or equal to the voltage on REF- converts to 0000000000.", 3 ANLG GND (power) "Analog ground. The reference point for the voltage applied on terminals ANLG VDD, AIN, REF+, and REF-.", 4 AIN (in) "Analog voltage input. The voltage applied to AIN is converted to the equivalent digital output.", 5 ANLG VDD (power) "Analog positive power supply voltage. The voltage applied to this terminal is designated VDD3.", 6 DGTL GND1 (power) "Digital ground 1. The ground for power supply DGTL VDD1 and is the substrate connection", 7 DGTL GND2 (power) "Digital ground 2. The ground for power supply DGTL VDD2", 8 DGTL VDD1 (power) "Digital positive power-supply voltage 1. DGTL VDD1 supplies the logic. The voltage applied to DGTL VDD1 is designated VDD1.", 9 DGTL VDD2 (power) "Digital positive power-supply voltage 2. DGTL VDD2 supplies only the higher-current output buffers. The voltage applied to DGTL VDD2 is designated VDD2.", 10 ~{EOC} (out) "End-of-conversion. E\O\C\ goes low indicating that conversion is complete and the results have been transferred to the output latch. E\O\C\ can be connected to the uP- or DSP-interrupt terminal or can be continuously polled", 11 D0 (hiz) "Data bus output. D0 is bit 1 (LSB).", 12 D1 (hiz) "Data bus output. D1 is bit 2.", 13 D2 (hiz) "Data bus output. D2 is bit 3.", 14 D3 (hiz) "Data bus output. D3 is bit 4.", 15 D4 (hiz) "Data bus output. D4 is bit 5.", 16 D5 (hiz) "Data bus output. D5 is bit 6.", 17 D6 (hiz) "Data bus output. D6 is bit 7.", 18 D7 (hiz) "Data bus output. D7 is bit 8.", 19 D8 (hiz) "Data bus output. D8 is bit 9.", 20 D9 (hiz) "Data bus output. D9 is bit 10 (MSB).", 21 ~{CS} (in) "Chip-select. C\S\ must be low for R\D\ or W\R\ to be recognized by the A/D converter.", 22 CLKIN (in) "Clock input. CLKIN is used for external clocking instead of using the internal system clock. It usually takes a few microseconds before the internal clock is disabled. To use the internal clock, CLKIN should be tied high or (See Datasheet)", 23 ~{WR} (in) "Write input. When C\S\ is low, conversion is started on the rising edge of W\R\. On this rising edge, the ADC holds the analog input until conversion is completed. Before and after the conversion period, which is given by (See Datasheet)", 24 ~{RD} (in) "Read input. When C\S\ is low and R\D\ is taken low, the data is placed on the data bus from the output latch. The output latch stores the conversion results at the most recent negative edge of E\O\C\. The falling edge of (See Datasheet)"

## TLC1551IDWG4
designator U?
10-Bit, 164 kSPS ADC Parallel Out, Direct I/F to DSP / uProcessor, 10 Channel, -40 to 85 degC, 24-pin SOIC (DW24), Green (RoHS & no Sb/Br); Manufacturer: Texas Instruments; PartNumber: TLC1551IDWG4; # Input Channels: 1; Analog Voltage AV/DD(Max)(V): 5.5; Analog Voltage AV/DD(Min)(V): 4.75; Architecture: SAR; Interface: Parallel CMOS; Resolution(Bits): 10; Sample Rate (max)(SPS): 164k; SubFamily: Precision ADC (<=10MSPS); DatasheetVersion: SLAS043G; PackageVersion: 4040000-5/G, 01/2011; PackageReference: DW24; PackageDescription: 24-Pin Plastic Small Outline, Body 15.4 x 7.5 mm, Pitch 1.27 mm; Supplier 1: Digi-Key; Supplier Part Number 1: TLC1543INE4-ND; Digital Supply(Max)(V): 5.5; Digital Supply(Min)(V): 4.75; Eco-Plan: Green (RoHS & no Sb/Br); INL(Max)(+/-LSB): 1; Mounting Technology: Surface Mount; Code_JEDEC: MS-013; ComponentLink1Description: Manufacturer URL; ComponentLink1URL: http://www.ti.com/; ComponentLink2Description: Datasheet; ComponentLink2URL: http://www.ti.com/general/docs/lit/getliterature.tsp?genericPartNumber=TLC1551&fileType=pdf; ComponentLink3Description: Package Specification; ComponentLink3URL: http://www.ti.com/litv/pdf/mpds174a
footprint TI-DW24_N (SOIC, 24-Leads, Body 15.4x7.5mm, Pitch 1.27mm, IPC Medium Density)
footprint TI-DW24_L (SOIC, 24-Leads, Body 15.4x7.5mm, Pitch 1.27mm, IPC High Density)
footprint TI-DW24_M (SOIC, 24-Leads, Body 15.4x7.5mm, Pitch 1.27mm, IPC Low Density)
pins: 1 REF+ (in) "Positive voltage-reference input. Any analog input that is greater than or equal to the voltage on REF+ converts to 1111111111. Analog input voltages between REF+ and REF- convert to the appropriate result in a ratiometric (See Datasheet)", 2 REF- (in) "Negative voltage reference input. Any analog input that is less than or equal to the voltage on REF- converts to 0000000000.", 3 ANLG GND (power) "Analog ground. The reference point for the voltage applied on terminals ANLG VDD, AIN, REF+, and REF-.", 4 AIN (in) "Analog voltage input. The voltage applied to AIN is converted to the equivalent digital output.", 5 ANLG VDD (power) "Analog positive power supply voltage. The voltage applied to this terminal is designated VDD3.", 6 DGTL GND1 (power) "Digital ground 1. The ground for power supply DGTL VDD1 and is the substrate connection", 7 DGTL GND2 (power) "Digital ground 2. The ground for power supply DGTL VDD2", 8 DGTL VDD1 (power) "Digital positive power-supply voltage 1. DGTL VDD1 supplies the logic. The voltage applied to DGTL VDD1 is designated VDD1.", 9 DGTL VDD2 (power) "Digital positive power-supply voltage 2. DGTL VDD2 supplies only the higher-current output buffers. The voltage applied to DGTL VDD2 is designated VDD2.", 10 ~{EOC} (out) "End-of-conversion. E\O\C\ goes low indicating that conversion is complete and the results have been transferred to the output latch. E\O\C\ can be connected to the uP- or DSP-interrupt terminal or can be continuously polled", 11 D0 (hiz) "Data bus output. D0 is bit 1 (LSB).", 12 D1 (hiz) "Data bus output. D1 is bit 2.", 13 D2 (hiz) "Data bus output. D2 is bit 3.", 14 D3 (hiz) "Data bus output. D3 is bit 4.", 15 D4 (hiz) "Data bus output. D4 is bit 5.", 16 D5 (hiz) "Data bus output. D5 is bit 6.", 17 D6 (hiz) "Data bus output. D6 is bit 7.", 18 D7 (hiz) "Data bus output. D7 is bit 8.", 19 D8 (hiz) "Data bus output. D8 is bit 9.", 20 D9 (hiz) "Data bus output. D9 is bit 10 (MSB).", 21 ~{CS} (in) "Chip-select. C\S\ must be low for R\D\ or W\R\ to be recognized by the A/D converter.", 22 CLKIN (in) "Clock input. CLKIN is used for external clocking instead of using the internal system clock. It usually takes a few microseconds before the internal clock is disabled. To use the internal clock, CLKIN should be tied high or (See Datasheet)", 23 ~{WR} (in) "Write input. When C\S\ is low, conversion is started on the rising edge of W\R\. On this rising edge, the ADC holds the analog input until conversion is completed. Before and after the conversion period, which is given by (See Datasheet)", 24 ~{RD} (in) "Read input. When C\S\ is low and R\D\ is taken low, the data is placed on the data bus from the output latch. The output latch stores the conversion results at the most recent negative edge of E\O\C\. The falling edge of (See Datasheet)"

## TLC1551IDWR
designator U?
10-Bit, 164 kSPS ADC Parallel Out, Direct I/F to DSP / uProcessor, 10 Channel, -40 to 85 degC, 24-pin SOIC (DW24), Green (RoHS & no Sb/Br); Manufacturer: Texas Instruments; PartNumber: TLC1551IDWR; # Input Channels: 1; Analog Voltage AV/DD(Max)(V): 5.5; Analog Voltage AV/DD(Min)(V): 4.75; Architecture: SAR; Interface: Parallel CMOS; Resolution(Bits): 10; Sample Rate (max)(SPS): 164k; SubFamily: Precision ADC (<=10MSPS); DatasheetVersion: SLAS043G; PackageVersion: 4040000-5/G, 01/2011; PackageReference: DW24; PackageDescription: 24-Pin Plastic Small Outline, Body 15.4 x 7.5 mm, Pitch 1.27 mm; Supplier 1: Digi-Key; Supplier Part Number 1: 296-2889-5-ND; Digital Supply(Max)(V): 5.5; Digital Supply(Min)(V): 4.75; Eco-Plan: Green (RoHS & no Sb/Br); INL(Max)(+/-LSB): 1; Mounting Technology: Surface Mount; Code_JEDEC: MS-013; ComponentLink1Description: Manufacturer URL; ComponentLink1URL: http://www.ti.com/; ComponentLink2Description: Datasheet; ComponentLink2URL: http://www.ti.com/general/docs/lit/getliterature.tsp?genericPartNumber=TLC1551&fileType=pdf; ComponentLink3Description: Package Specification; ComponentLink3URL: http://www.ti.com/litv/pdf/mpds174a
footprint TI-DW24_N (SOIC, 24-Leads, Body 15.4x7.5mm, Pitch 1.27mm, IPC Medium Density)
footprint TI-DW24_L (SOIC, 24-Leads, Body 15.4x7.5mm, Pitch 1.27mm, IPC High Density)
footprint TI-DW24_M (SOIC, 24-Leads, Body 15.4x7.5mm, Pitch 1.27mm, IPC Low Density)
pins: 1 REF+ (in) "Positive voltage-reference input. Any analog input that is greater than or equal to the voltage on REF+ converts to 1111111111. Analog input voltages between REF+ and REF- convert to the appropriate result in a ratiometric (See Datasheet)", 2 REF- (in) "Negative voltage reference input. Any analog input that is less than or equal to the voltage on REF- converts to 0000000000.", 3 ANLG GND (power) "Analog ground. The reference point for the voltage applied on terminals ANLG VDD, AIN, REF+, and REF-.", 4 AIN (in) "Analog voltage input. The voltage applied to AIN is converted to the equivalent digital output.", 5 ANLG VDD (power) "Analog positive power supply voltage. The voltage applied to this terminal is designated VDD3.", 6 DGTL GND1 (power) "Digital ground 1. The ground for power supply DGTL VDD1 and is the substrate connection", 7 DGTL GND2 (power) "Digital ground 2. The ground for power supply DGTL VDD2", 8 DGTL VDD1 (power) "Digital positive power-supply voltage 1. DGTL VDD1 supplies the logic. The voltage applied to DGTL VDD1 is designated VDD1.", 9 DGTL VDD2 (power) "Digital positive power-supply voltage 2. DGTL VDD2 supplies only the higher-current output buffers. The voltage applied to DGTL VDD2 is designated VDD2.", 10 ~{EOC} (out) "End-of-conversion. E\O\C\ goes low indicating that conversion is complete and the results have been transferred to the output latch. E\O\C\ can be connected to the uP- or DSP-interrupt terminal or can be continuously polled", 11 D0 (hiz) "Data bus output. D0 is bit 1 (LSB).", 12 D1 (hiz) "Data bus output. D1 is bit 2.", 13 D2 (hiz) "Data bus output. D2 is bit 3.", 14 D3 (hiz) "Data bus output. D3 is bit 4.", 15 D4 (hiz) "Data bus output. D4 is bit 5.", 16 D5 (hiz) "Data bus output. D5 is bit 6.", 17 D6 (hiz) "Data bus output. D6 is bit 7.", 18 D7 (hiz) "Data bus output. D7 is bit 8.", 19 D8 (hiz) "Data bus output. D8 is bit 9.", 20 D9 (hiz) "Data bus output. D9 is bit 10 (MSB).", 21 ~{CS} (in) "Chip-select. C\S\ must be low for R\D\ or W\R\ to be recognized by the A/D converter.", 22 CLKIN (in) "Clock input. CLKIN is used for external clocking instead of using the internal system clock. It usually takes a few microseconds before the internal clock is disabled. To use the internal clock, CLKIN should be tied high or (See Datasheet)", 23 ~{WR} (in) "Write input. When C\S\ is low, conversion is started on the rising edge of W\R\. On this rising edge, the ADC holds the analog input until conversion is completed. Before and after the conversion period, which is given by (See Datasheet)", 24 ~{RD} (in) "Read input. When C\S\ is low and R\D\ is taken low, the data is placed on the data bus from the output latch. The output latch stores the conversion results at the most recent negative edge of E\O\C\. The falling edge of (See Datasheet)"